# EAGLE library part 691322110007 (library WR-TBL Pluggable Connector)
WR-TBL Serie 3221 - 3.50 mm Horizontal PCB Header KIND PROPERTIES Pitch 3.5 mm MATERIAL PROPERTIES Insulator Material PA66 Insulator Flammability Rating UL94 V-0 Contact Material Brass Contact Plating Tin GENERAL INFORMATION Operating Temperature -40 up to +105 °C Compliance RoHS ELECTRICAL PROPERTIES IR cULus 10 A IR VDE 10.5 A Working Voltage [cULus] 300 V (AC) Working Voltage [VDE] 300 V (AC) Withstanding Voltage [cULus] 1600 V (AC) Withstanding Voltage [VDE] 2500 V (AC) Contact Resistance [cULus] 20 mΩ Contact Resistance [VDE] 20 mΩ CERTIFICATION cULus Approval E315414 VDE Approval 40023195 <https://www.we-online.com/catalog/media/o33276v209%20Family_WR-TBL_69132211000x.jpg> Details see: https://www.we-online.com/catalog/en/TBL_3_50_3221_HORIZONTAL_PCB_HEADER_69132211000X/ Updated by Ella Wu 2019-12-18 2022(C) Wurth Elektronik
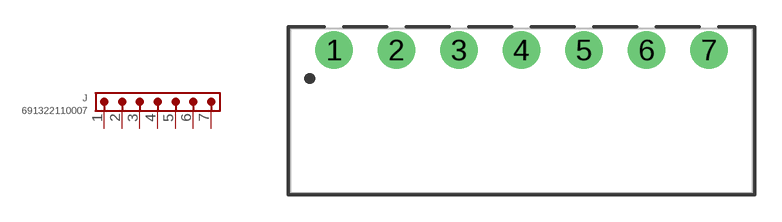
[diagram p47: symbol with the pads of 691322110007; footprint 691322110007]

Designator prefix J

## 691322110007 (DATASHEET-URL: https://www.we-online.com/redexpert/spec/691322110007?ae; IR-UL: 10A; IR-VDE: 10.5A; MOUNT: THT; PART-NUMBER: 691322110007; PINS: 7; PITCH: 3.5mm; TYPE: Horizontal; VALUE: 691322110007; WORKING-VOLTAGE-UL: 300V (AC); WORKING-VOLTAGE-VDE: 300V (AC))  [691322110007]
1  1  pas
2  2  pas
3  3  pas
4  4  pas
5  5  pas
6  6  pas
7  7  pas

## Footprint 691322110007 (pad centres in mm)
WR-TBL Serie 3221 - 3.50 mm Horizontal PCB Header Max Height = 7mm , Pitch 3.5mm , 7pins
drill 1.4: 1 -10.5,0; 2 -7,0; 3 -3.5,0; 4 0,0; 5 3.5,0; 6 7,0; 7 10.5,0